# Altium schematic symbol library SAMTEC-TSM-110-01-X-DH.SchLib: 1 symbol
Pins are listed as number, name and electrical type; pins without a type are passive.

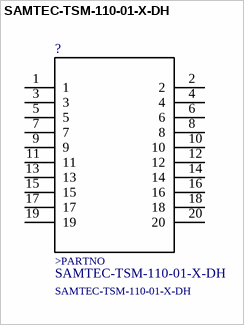
[diagram p0: symbol SAMTEC-TSM-110-01-X-DH]

## SAMTEC-TSM-110-01-X-DH
designator ?
Conn Unshrouded Header HDR 20 POS 2.54mm Solder RA SMD T/R; MF: Samtec; MP: TSM-110-01-L-DH-A-P-TR; Package: None; SnapEDA_Link: https://www.snapeda.com/parts/TSM-110-01-L-DH-A-P-TR/Samtec/view-part/?ref=snap; Price: None; Availability: Unavailable; Value: *
footprint SAMTEC-TSM-110-01-X-DH
pins: 1, 2, 3, 4, 5, 6, 7, 8, 9, 10, 11, 12, 13, 14, 15, 16, 17, 18, 19, 20
text: >PARTNO